# Altium schematic symbol library DesignIII.SchLib: 4 symbols
Pins are listed as number, name and electrical type; pins without a type are passive.

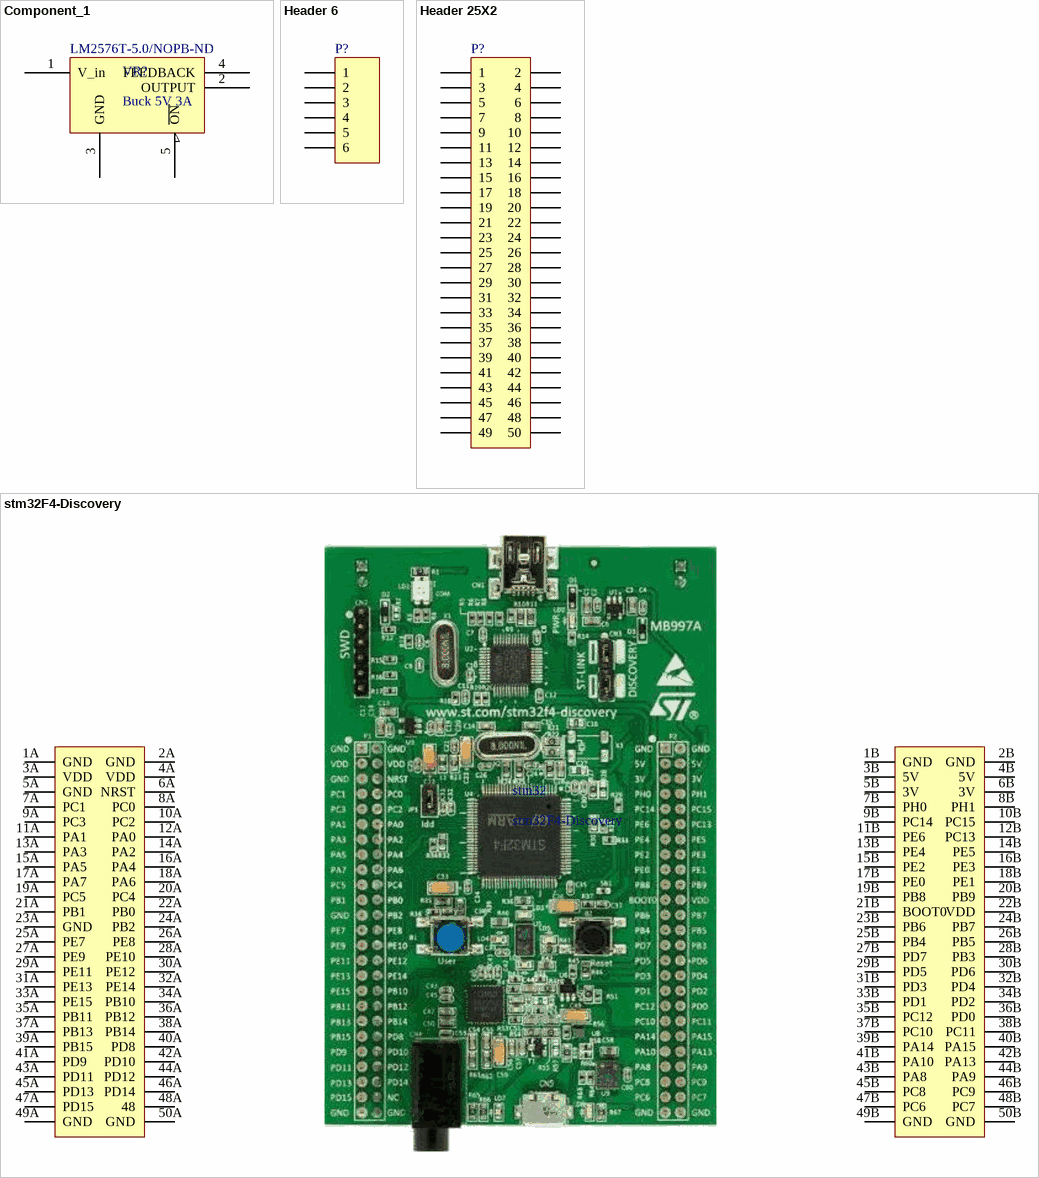
[diagram p0: symbols Component_1 to stm32F4-Discovery]

## Component_1
designator VR?, comment Buck 5V 3A  Supplier Part Number 1: LM2576T-5.0/NOPB-ND
Supplier 1: Digi-Key
pins: 1 V_in, 2 OUTPUT, 3 GND, 4 FEEDBACK, 5 ~{ON}

## Header 6
designator P?
Header, 6-Pin; LatestRevisionDate: 17-Jul-2002; LatestRevisionNote: Re-released for DXP Platform.; Publisher: Altium Limited
footprint HDR1X6 (Connector; Header; 6 Position)
signal-integrity model Connector
pins: 1, 2, 3, 4, 5, 6

## Header 25X2
designator P?
Header, 25-Pin, Dual row; LatestRevisionDate: 17-Jul-2002; LatestRevisionNote: Re-released for DXP Platform.; Publisher: Altium Limited
footprint HDR2X25 (Connector; Header; 25x2 Position)
signal-integrity model Connector
pins: 1, 2, 3, 4, 5, 6, 7, 8, 9, 10, 11, 12, 13, 14, 15, 16, 17, 18, 19, 20, 21, 22, 23, 24, 25, 26, 27, 28, 29, 30, 31, 32, 33, 34, 35, 36, 37, 38, 39, 40, 41, 42, 43, 44, 45, 46, 47, 48, 49, 50

## stm32F4-Discovery
designator stm32
footprint stm32-discovery (Connector; Header; 25x2 Position)
pins: 1A GND "1A", 1B GND "1B", 2A GND "2A", 2B GND "2B", 3A VDD "3A", 3B 5V "3B", 4A VDD "4A", 4B 5V "4B", 5A GND "5A", 5B 3V "5B", 6A NRST "6A", 6B 3V "6B", 7A PC1 "7A", 7B PH0 "7B", 8A PC0 "8A", 8B PH1 "8B", 9A PC3 "9A", 9B PC14 "9B", 10A PC2 "10A", 10B PC15 "10B", 11A PA1 "11A", 11B PE6 "11B", 12A PA0 "12A", 12B PC13 "12B", 13A PA3 "13A", 13B PE4 "13B", 14A PA2 "14A", 14B PE5 "14B", 15A PA5 "15A", 15B PE2 "15B", 16A PA4 "16A", 16B PE3 "16B", 17A PA7 "17A", 17B PE0 "17B", 18A PA6 "18A", 18B PE1 "18B", 19A PC5 "19A", 19B PB8 "19B", 20A PC4 "20A", 20B PB9 "20B", 21A PB1 "21A", 21B BOOT0 "21B", 22A PB0 "22A", 22B VDD "22B", 23A GND "23A", 23B PB6 "23B", 24A PB2 "24A", 24B PB7 "24B", 25A PE7 "25A", 25B PB4 "25B", 26A PE8 "26A", 26B PB5 "26B", 27A PE9 "27A", 27B PD7 "27B", 28A PE10 "28A", 28B PB3 "28B", 29A PE11 "29A", 29B PD5 "29B", 30A PE12 "30A", 30B PD6 "30B", 31A PE13 "31A", 31B PD3 "31B", 32A PE14 "32A", 32B PD4 "32B", 33A PE15 "33A", 33B PD1 "33B", 34A PB10 "34A", 34B PD2 "34B", 35A PB11 "35A", 35B PC12 "35B", 36A PB12 "36A", 36B PD0 "36B", 37A PB13 "37A", 37B PC10 "37B", 38A PB14 "38A", 38B PC11 "38B", 39A PB15 "39A", 39B PA14 "39B", 40A PD8 "40A", 40B PA15 "40B", 41A PD9 "41A", 41B PA10 "41B", 42A PD10 "42A", 42B PA13 "42B", 43A PD11 "43A", 43B PA8 "43B", 44A PD12 "44A", 44B PA9 "44B", 45A PD13 "45A", 45B PC8 "45B", 46A PD14 "46A", 46B PC9 "46B", 47A PD15 "47A", 47B PC6 "47B", 48A 48 "48A", 48B PC7 "48B", 49A GND "49A", 49B GND "49B", 50A GND "50A", 50B GND "50B"